# EAGLE library part AD7228A* (library mita-akiba)
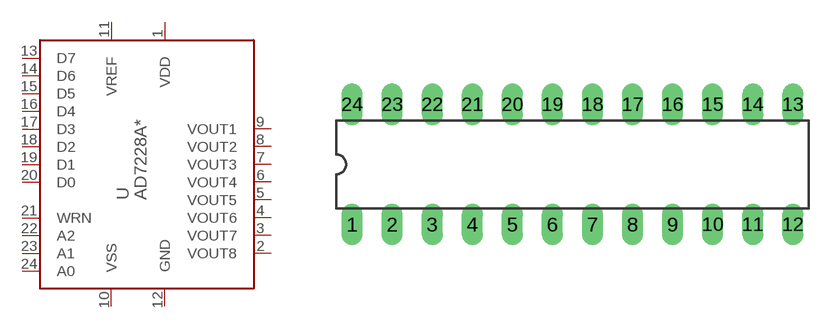
[diagram p38: symbol with the pads of DIL24-3; footprint DIL24-3]

Designator prefix -

## AD7228AN  [DIL24-3]
1  VDD
2  VOUT8
3  VOUT7
4  VOUT6
5  VOUT5
6  VOUT4
7  VOUT3
8  VOUT2
9  VOUT1
10  VSS
11  VREF
12  GND
13  D7
14  D6
15  D5
16  D4
17  D3
18  D2
19  D1
20  D0
21  WRN
22  A2
23  A1
24  A0

## Footprint DIL24-3 (pad centres in mm)
Dual In Line Package 0.3 inch
drill 0.813 long: 1 -13.97,-3.81; 2 -11.43,-3.81; 3 -8.89,-3.81; 4 -6.35,-3.81; 5 -3.81,-3.81; 6 -1.27,-3.81; 7 1.27,-3.81; 8 3.81,-3.81; 9 6.35,-3.81; 10 8.89,-3.81; 11 11.43,-3.81; 12 13.97,-3.81; 13 13.97,3.81; 14 11.43,3.81; 15 8.89,3.81; 16 6.35,3.81; 17 3.81,3.81; 18 1.27,3.81; 19 -1.27,3.81; 20 -3.81,3.81; 21 -6.35,3.81; 22 -8.89,3.81; 23 -11.43,3.81; 24 -13.97,3.81